# Altium footprint library zynq.PcbLib: 126 footprints (part 7 of 8)
Each footprint in its own frame and in the unit in brackets; x right, y up, seen from the top. Pads: shape width x height; smd on the part's side, far side on the other; paste and mask are expansions set on the pad; w line width, h text height; cw(c..) or ccw(c..) is an arc to the next point about the centre after c.
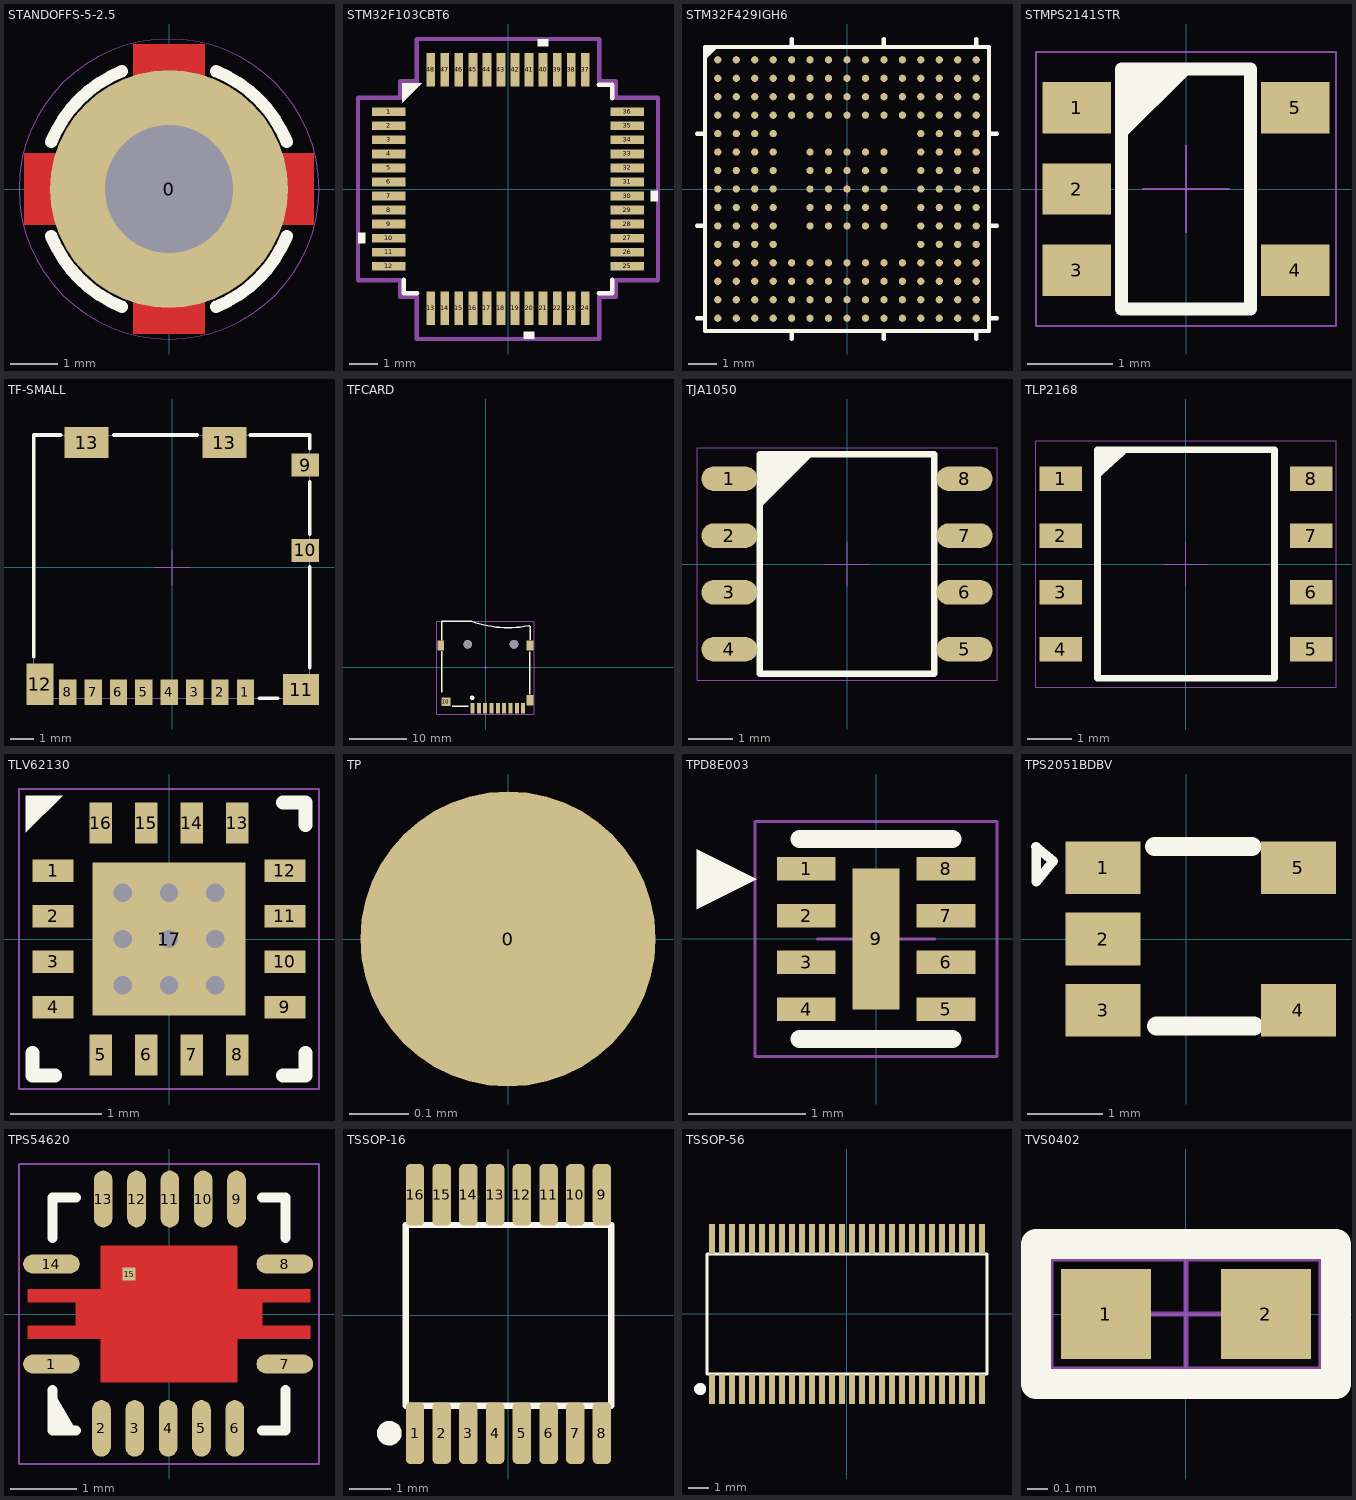
[diagram p6: the footprints below, top view; thin cyan lines are the x and y axes]

## STANDOFFS-5-2.5 [mm] "外径5 台阶外径2.5"
pads (1):
  round 5 / inner round 5 / far side round 0 hole 2.7: 0(0,0)
Top Layer:
  region: -1.422,-0.762 -1.422,0.762 -3.048,0.762 -3.048,-0.762
  rectangle: -0.762,1.422 0.762,3.048
  region: 1.422,0.762 1.422,-0.762 3.048,-0.762 3.048,0.762
  region: 0.762,-1.422 -0.762,-1.422 -0.762,-3.048 0.762,-3.048
Top Overlay:
  lines w0.254: -2.476,-0.99 ccw(c0,0) -0.99,-2.476 ; -2.476,0.99 cw(c0,0) -0.99,2.476 ; 0.99,-2.476 ccw(c0,0) 2.476,-0.99 ; 0.99,2.476 cw(c0,0) 2.476,0.99
Top Paste:
  region: -0.653,2.337 -0.443,1.6 0.493,1.6 0.704,2.337
  region: -2.114,1.191 -1.445,0.818 -0.783,1.48 -1.155,2.15
  region: -2.337,-0.653 -1.6,-0.443 -1.6,0.493 -2.337,0.704
  region: -1.191,-2.114 -0.818,-1.445 -1.48,-0.783 -2.15,-1.155
  region: 0.653,-2.337 0.443,-1.6 -0.493,-1.6 -0.704,-2.337
  region: 2.114,-1.191 1.445,-0.818 0.783,-1.48 1.155,-2.15
  region: 2.337,0.653 1.6,0.443 1.6,-0.493 2.337,-0.704
  region: 2.337,0.653 1.6,0.443 1.6,-0.493 2.337,-0.704
  region: 1.191,2.114 0.818,1.445 1.48,0.783 2.15,1.155
Top Solder:
  region: -1.422,-0.762 -1.422,0.762 -3.048,0.762 -3.048,-0.762
  rectangle: -0.762,1.422 0.762,3.048
  region: 1.422,0.762 1.422,-0.762 3.048,-0.762 3.048,0.762
  region: 0.762,-1.422 -0.762,-1.422 -0.762,-3.048 0.762,-3.048
Mechanical 15:
  circle w0.025: c0,0 r3.155
  lines w0.025: -0.381,0 0.381,0 ; 0,-0.381 0,0.381
3D body "cp-m2-3.2-5.SLDPRT": height 3.2, standoff -1.5, extent -2.497,-2.5 2.497,2.5

## STM32F103CBT6 [mm]
pads (48):
  rect 1.194x0.305 smd paste+0 mask+0: 1(-4.25,2.75) 2(-4.25,2.25) 3(-4.25,1.75) 4(-4.25,1.25) 5(-4.25,0.75) 6(-4.25,0.25) 7(-4.25,-0.25) 8(-4.25,-0.75) 9(-4.25,-1.25) 10(-4.25,-1.75) 11(-4.25,-2.25) 12(-4.25,-2.75) 25(4.25,-2.75) 26(4.25,-2.25) 27(4.25,-1.75) 28(4.25,-1.25) 29(4.25,-0.75) 30(4.25,-0.25) 31(4.25,0.25) 32(4.25,0.75) 33(4.25,1.25) 34(4.25,1.75) 35(4.25,2.25) 36(4.25,2.75)
  rect 0.305x1.194 smd paste+0 mask+0: 13(-2.75,-4.25) 14(-2.25,-4.25) 15(-1.75,-4.25) 16(-1.25,-4.25) 17(-0.75,-4.25) 18(-0.25,-4.25) 19(0.25,-4.25) 20(0.75,-4.25) 21(1.25,-4.25) 22(1.75,-4.25) 23(2.25,-4.25) 24(2.75,-4.25) 37(2.75,4.25) 38(2.25,4.25) 39(1.75,4.25) 40(1.25,4.25) 41(0.75,4.25) 42(0.25,4.25) 43(-0.25,4.25) 44(-0.75,4.25) 45(-1.25,4.25) 46(-1.75,4.25) 47(-2.25,4.25) 48(-2.75,4.25)
Top Overlay:
  region: -5.101,-1.559 -5.355,-1.559 -5.355,-1.94 -5.101,-1.94
  region: 0.941,-5.101 0.56,-5.101 0.56,-5.355 0.941,-5.355
  region: 5.101,-0.059 5.355,-0.059 5.355,-0.44 5.101,-0.44
  region: 1.441,5.101 1.06,5.101 1.06,5.355 1.441,5.355
  region: -3.08,3.778 -3.783,3.778 -3.783,3.075
  lines w0.152: -3.721,-3.235 -3.721,-3.721 -3.235,-3.721 ; 3.235,-3.721 3.721,-3.721 3.721,-3.235 ; 3.235,3.721 3.721,3.721 3.721,3.235
Mechanical 15:
  lines w0.152: -5.355,-3.258 -3.848,-3.258 -3.848,-3.848 -3.258,-3.848 -3.258,-5.355 3.258,-5.355 3.258,-3.848 3.848,-3.848 3.848,-3.258 5.355,-3.258 5.355,3.258 3.848,3.258 3.848,3.848 3.258,3.848 3.258,5.355 -3.258,5.355 -3.258,3.848 -3.848,3.848 -3.848,3.258 -5.355,3.258 -5.355,-3.258

## STM32F429IGH6 [mil] "BGA176, Pitch 0.65mm, 10mmx10mm"
pads (201):
  round 10 smd paste+0 mask+0: A1(-179.13,179.13) A2(-153.54,179.13) A3(-127.95,179.13) A4(-102.36,179.13) A5(-76.77,179.13) A6(-51.18,179.13) A7(-25.59,179.13) A8(0,179.13) A9(25.59,179.13) A10(51.18,179.13) A11(76.77,179.13) A12(102.36,179.13) A13(127.95,179.13) A14(153.54,179.13) A15(179.13,179.13) B1(-179.13,153.54) B2(-153.54,153.54) B3(-127.95,153.54) B4(-102.36,153.54) B5(-76.77,153.54) B6(-51.18,153.54) B7(-25.59,153.54) B8(0,153.54) B9(25.59,153.54) B10(51.18,153.54) B11(76.77,153.54) B12(102.36,153.54) B13(127.95,153.54) B14(153.54,153.54) B15(179.13,153.54) C1(-179.13,127.95) C2(-153.54,127.95) C3(-127.95,127.95) C4(-102.36,127.95) C5(-76.77,127.95) C6(-51.18,127.95) C7(-25.59,127.95) C8(0,127.95) C9(25.59,127.95) C10(51.18,127.95) C11(76.77,127.95) C12(102.36,127.95) C13(127.95,127.95) C14(153.54,127.95) C15(179.13,127.95) D1(-179.13,102.36) D2(-153.54,102.36) D3(-127.95,102.36) D4(-102.36,102.36) D5(-76.77,102.36) D6(-51.18,102.36) D7(-25.59,102.36) D8(0,102.36) D9(25.59,102.36) D10(51.18,102.36) D11(76.77,102.36) D12(102.36,102.36) D13(127.95,102.36) D14(153.54,102.36) D15(179.13,102.36) E1(-179.13,76.77) E2(-153.54,76.77) E3(-127.95,76.77) E4(-102.36,76.77) E12(102.36,76.77) E13(127.95,76.77) E14(153.54,76.77) E15(179.13,76.77) F1(-179.13,51.18) F2(-153.54,51.18) F3(-127.95,51.18) F4(-102.36,51.18) F6(-51.18,51.18) F7(-25.59,51.18) F8(0,51.18) F9(25.59,51.18) F10(51.18,51.18) F12(102.36,51.18) F13(127.95,51.18) F14(153.54,51.18) F15(179.13,51.18) G1(-179.13,25.59) G2(-153.54,25.59) G3(-127.95,25.59) G4(-102.36,25.59) G6(-51.18,25.59) G7(-25.59,25.59) G8(0,25.59) G9(25.59,25.59) G10(51.18,25.59) G12(102.36,25.59) G13(127.95,25.59) G14(153.54,25.59) G15(179.13,25.59) H1(-179.13,0) H2(-153.54,0) H3(-127.95,0) H4(-102.36,0) H6(-51.18,0) H7(-25.59,0) H8(0,0) H9(25.59,0) H10(51.18,0) H12(102.36,0) H13(127.95,0) H14(153.54,0) H15(179.13,0) J1(-179.13,-25.59) J2(-153.54,-25.59) J3(-127.95,-25.59) J4(-102.36,-25.59) J6(-51.18,-25.59) J7(-25.59,-25.59) J8(0,-25.59) J9(25.59,-25.59) J10(51.18,-25.59) J12(102.36,-25.59) J13(127.95,-25.59) J14(153.54,-25.59) J15(179.13,-25.59) K1(-179.13,-51.18) K2(-153.54,-51.18) K3(-127.95,-51.18) K4(-102.36,-51.18) K6(-51.18,-51.18) K7(-25.59,-51.18) K8(0,-51.18) K9(25.59,-51.18) K10(51.18,-51.18) K12(102.36,-51.18) K13(127.95,-51.18) K14(153.54,-51.18) K15(179.13,-51.18) L1(-179.13,-76.77) L2(-153.54,-76.77) L3(-127.95,-76.77) L4(-102.36,-76.77) L12(102.36,-76.77) L13(127.95,-76.77) L14(153.54,-76.77) L15(179.13,-76.77) M1(-179.13,-102.36) M2(-153.54,-102.36) M3(-127.95,-102.36) M4(-102.36,-102.36) M5(-76.77,-102.36) M6(-51.18,-102.36) M7(-25.59,-102.36) M8(0,-102.36) M9(25.59,-102.36) M10(51.18,-102.36) M11(76.77,-102.36) M12(102.36,-102.36) M13(127.95,-102.36) M14(153.54,-102.36) M15(179.13,-102.36) N1(-179.13,-127.95) N2(-153.54,-127.95) N3(-127.95,-127.95) N4(-102.36,-127.95) N5(-76.77,-127.95) N6(-51.18,-127.95) N7(-25.59,-127.95) N8(0,-127.95) N9(25.59,-127.95) N10(51.18,-127.95) N11(76.77,-127.95) N12(102.36,-127.95) N13(127.95,-127.95) N14(153.54,-127.95) N15(179.13,-127.95) P1(-179.13,-153.54) P2(-153.54,-153.54) P3(-127.95,-153.54) P4(-102.36,-153.54) P5(-76.77,-153.54) P6(-51.18,-153.54) P7(-25.59,-153.54) P8(0,-153.54) P9(25.59,-153.54) P10(51.18,-153.54) P11(76.77,-153.54) P12(102.36,-153.54) P13(127.95,-153.54) P14(153.54,-153.54) P15(179.13,-153.54) R1(-179.13,-179.13) R2(-153.54,-179.13) R3(-127.95,-179.13) R4(-102.36,-179.13) R5(-76.77,-179.13) R6(-51.18,-179.13) R7(-25.59,-179.13) R8(0,-179.13) R9(25.59,-179.13) R10(51.18,-179.13) R11(76.77,-179.13) R12(102.36,-179.13) R13(127.95,-179.13) R14(153.54,-179.13) R15(179.13,-179.13)
Top Overlay:
  region: -179.13,196.85 -196.85,179.13 -196.85,196.85
  lines w6: -208,-179.13 -198,-179.13 ; -208,-51.18 -198,-51.18 ; -208,76.77 -198,76.77 ; -76.77,-208 -76.77,-198 ; -76.77,198 -76.77,208 ; 51.18,-208 51.18,-198 ; 51.18,198 51.18,208 ; 179.13,-208 179.13,-198 ; 179.13,198 179.13,208 ; 198,-179.13 208,-179.13 ; 198,-51.18 208,-51.18 ; 198,76.77 208,76.77 ; -196.85,-196.85 196.85,-196.85 196.85,196.85 -196.85,196.85 -196.85,-196.85
Mechanical 13:
  lines w1: -198,-198 -198,198 198,198 198,-198 -198,-198
Mechanical 15:
  lines w1: -10,0 10,0 ; 0,-10 0,10 ; -196.85,-196.85 196.85,-196.85 196.85,196.85 -196.85,196.85 -196.85,-196.85

## STMPS2141STR [mm] "SOT23, 5-Leads, Body 2.90x2.80mm, Pitch 0.95mm, IPC High Density"
height 0.9
pads (5):
  rect 0.8x0.6 smd: 1(-1.275,0.95) 2(-1.275,0) 3(-1.275,-0.95) 4(1.275,-0.95) 5(1.275,0.95)
Top Overlay:
  region: -0.754,0.555 0.077,1.387 0.077,1.39 -0.741,1.39 -0.749,1.397
  lines w0.152: -0.75,-1.4 0.75,-1.4 0.75,1.4 -0.75,1.4 -0.75,-1.4
Mechanical 15:
  lines w0.025: -0.5,0 0.5,0 ; 0,-0.5 0,0.5 ; -1.75,-1.6 -1.75,1.6 1.75,1.6 1.75,-1.6 -1.75,-1.6

## TF-SMALL [mm]
pads (14):
  rect 0.75x1.1 smd: 1(3.163,-5.412) 2(2.063,-5.412) 3(0.962,-5.412) 4(-0.137,-5.412) 5(-1.237,-5.412) 6(-2.337,-5.412) 7(-3.437,-5.412) 8(-4.537,-5.412)
  rect 1.2x1 smd: 9(5.748,4.438) 10(5.748,0.738)
  rect 1.55x1.35 smd: 11(5.573,-5.287)
  rect 1.17x1.8 smd: 12(-5.747,-5.062)
  rect 1.9x1.35 smd: 13(-3.722,5.413) 13(2.248,5.413)
Top Overlay:
  lines w0.152: -6.008,-3.862 -6.008,5.738 -4.832,5.738 ; -2.532,5.738 1.068,5.738 ; 3.368,5.738 5.942,5.738 5.942,5.138 ; 3.768,-5.662 4.568,-5.662 ; 5.942,-4.337 5.942,0.038 ; 5.942,1.438 5.942,3.712
Mechanical 15:
  lines w0.025: -0.762,0 0.762,0 ; 0,-0.762 0,0.762 ; -6.008,-5.662 5.942,-5.662 5.942,5.738 -6.008,5.738 -6.008,-5.662

## TFCARD [mil]
pads (15):
  rect 27.56x70.87 smd: 1(-92,-280.5) 2(-48.69,-280.5) 3(-5.39,-280.5) 4(37.92,-280.5) 5(81.23,-280.5) 6(124.54,-280.5) 7(167.84,-280.5) 8(211.15,-280.5) 9(254.46,-280.5)
  rect 62.99x59.06 smd: 10(-273.1,-235.22)
  rect 47.24x70.87 smd: 11(301.7,-225.38) 12(301.7,148.63) 13(-308.54,148.63)
  round 59.06 hole 59.06 unplated: ""(-124,156.51) ""(192,156.51)
Top Overlay:
  circle w29.53: c-93.86,-210 r1
  lines w10: -301.54,-172.5 -301.54,107.5 ; -301.54,185.5 -301.54,311.5 ; -301.54,313.5 -98.06,313.5 ccw(c151.13,1000.55) 292.46,283.5 300.46,283.5 ; -231.54,-266.5 -119.54,-266.5 ; 300.46,-184.5 300.46,105.5 ; 302.46,187.5 302.46,281.5
Mechanical 15:
  lines w1: -10,0 10,0 ; 0,-10 0,10 ; -335,-320 -335,315 330,315 330,-320 -335,-320
Multi-Layer:
  circle w1: c-123.5,156.51 r29.64
  circle w1: c191.46,156.51 r29.64

## TJA1050 [mm]
height 1.75
pads (8):
  oval 1.25x0.55 smd: 1(-2.625,1.905) 2(-2.625,0.635) 3(-2.625,-0.635) 4(-2.625,-1.905) 5(2.625,-1.905) 6(2.625,-0.635) 7(2.625,0.635) 8(2.625,1.905)
Top Overlay:
  region: -1.936,2.371 -1.916,2.391 -0.8,2.391 -1.95,1.241
  lines w0.152: -1.95,-2.45 -1.95,2.45 1.95,2.45 1.95,-2.45 -1.95,-2.45
Mechanical 15:
  lines w0.025: -0.5,0 0.5,0 ; 0,-0.5 0,0.5 ; -3.35,-2.6 -3.35,2.6 3.35,2.6 3.35,-2.6 -3.35,-2.6
3D body "tja1050.STEP": height 1.66, standoff 0, extent -3.078,-2.483 3.077,2.417

## TLP2168 [mm]
pads (8):
  rect 0.95x0.55 smd: 1(-2.8,1.905) 2(-2.8,0.635) 3(-2.8,-0.635) 4(-2.8,-1.905) 5(2.8,-1.905) 6(2.8,-0.635) 7(2.8,0.635) 8(2.8,1.905)
Top Overlay:
  region: -1.27,2.54 -1.975,1.905 -1.975,2.55
  lines w0.152: -1.975,-2.55 -1.975,2.55 1.975,2.55 1.975,-2.55 -1.975,-2.55
Mechanical 15:
  lines w0.025: -0.5,0 0.5,0 ; 0,-0.5 0,0.5 ; -3.35,-2.75 -3.35,2.75 3.35,2.75 3.35,-2.75 -3.35,-2.75

## TLV62130 [mm] "PQFN, 16-Leads, Body 3.00x3.00mm, Pitch 0.50mm, Thermal Pad 1.68x1.68mm, IPC High Density"
height 1
pads (17):
  rect 0.45x0.25 smd: 1(-1.275,0.75) 2(-1.275,0.25) 3(-1.275,-0.25) 4(-1.275,-0.75) 9(1.275,-0.75) 10(1.275,-0.25) 11(1.275,0.25) 12(1.275,0.75)
  rect 0.25x0.45 smd: 5(-0.75,-1.275) 6(-0.25,-1.275) 7(0.25,-1.275) 8(0.75,-1.275) 13(0.75,1.275) 14(0.25,1.275) 15(-0.25,1.275) 16(-0.75,1.275)
  rect 1.68x1.68 smd: 17(0,0)
via 0.508,-0.508 diameter 0.45 hole 0.2
via 0,-0.508 diameter 0.45 hole 0.2
via -0.508,-0.508 diameter 0.45 hole 0.2
via 0.508,0 diameter 0.45 hole 0.2
via 0,0 diameter 0.45 hole 0.2
via 0.508,0.508 diameter 0.45 hole 0.2
via -0.508,0.508 diameter 0.45 hole 0.2
via 0,0.508 diameter 0.45 hole 0.2
via -0.508,0 diameter 0.45 hole 0.2
Top Overlay:
  region: -1.17,1.577 -1.575,1.172 -1.575,1.577
  lines w0.152: -1.5,-1.251 -1.5,-1.5 -1.251,-1.5 ; 1.251,-1.5 1.5,-1.5 1.5,-1.251 ; 1.251,1.5 1.5,1.5 1.5,1.251
Mechanical 15:
  lines w0.025: -0.5,0 0.5,0 ; 0,-0.5 0,0.5 ; -1.65,-1.65 -1.65,1.65 1.65,1.65 1.65,-1.65 -1.65,-1.65

## TP [mm]
pads (1):
  round 0.5 smd: 0(0,0)

## TPD8E003 [mm] "SON, 8-Leads, Body 1.70x1.35mm, Pitch 0.40mm, Thermal Pad 1.20x0.40mm, IPC High Density"
height 0.75
pads (9):
  rect 0.5x0.2 smd: 1(-0.595,0.6) 2(-0.595,0.2) 3(-0.595,-0.2) 4(-0.595,-0.6) 5(0.595,-0.6) 6(0.595,-0.2) 7(0.595,0.2) 8(0.595,0.6)
  rect 0.4x1.2 smd: 9(0,0)
Top Overlay:
  region: -1.524,0.762 -1.524,0.254 -1.016,0.508
  lines w0.152: -0.65,-0.85 0.65,-0.85 ; -0.65,0.85 0.65,0.85
Mechanical 15:
  lines w0.025: -0.5,0 0.5,0 ; 0,-0.5 0,0.5 ; -1.03,-1 1.03,-1 1.03,1 -1.03,1 -1.03,-1

## TPS2051BDBV [mm] "TPS2051BDBV"
pads (5):
  rect 1x0.7 smd: 1(-1.104,0.95) 2(-1.104,0) 3(-1.104,-0.95) 4(1.496,-0.95) 5(1.496,0.95)
Top Overlay:
  lines w0.127: -1.996,1.228 -1.768,1.037 -1.993,0.759 -1.993,1.229
  lines w0.254: -0.418,1.229 0.877,1.229 ; -0.393,-1.158 0.903,-1.158

## TPS54620 [mm] "VQFN_3_5"
pads (15):
  oval 0.85x0.28 smd paste-0.04: 1(-1.763,-0.75) 7(1.737,-0.75) 8(1.737,0.75) 14(-1.763,0.75)
  oval 0.28x0.85 smd paste-0.04: 2(-1.013,-1.716) 3(-0.513,-1.716) 4(-0.013,-1.716) 5(0.487,-1.716) 6(0.987,-1.716) 9(1.013,1.725) 10(0.513,1.725) 11(0.013,1.725) 12(-0.487,1.725) 13(-0.987,1.725)
  rect 0.2x0.2 smd paste+0: 15(-0.6,0.6)
Top Layer:
  region: -1.35,-0.175 -2.124,-0.175 -2.124,-0.375 -1.35,-0.375
  region: -1.35,0.375 -2.124,0.375 -2.124,0.175 -1.35,0.175
  region: -1.013,0.375 -1.4,0.375 -1.4,-0.375 -1.013,-0.375
  rectangle: 1.35,0.175 2.125,0.375
  rectangle: 1.35,-0.375 2.125,-0.175
  rectangle: 1.013,-0.375 1.4,0.375
  rectangle: -1.025,-1.025 1.025,1.025
Top Overlay:
  region: -1.753,-1.139 -1.394,-1.75 -1.75,-1.75
  lines w0.152: -1.75,-1.143 -1.75,-1.75 -1.397,-1.75 ; -1.75,1.143 -1.75,1.75 -1.397,1.75 ; 1.397,-1.75 1.75,-1.75 1.75,-1.143 ; 1.397,1.75 1.75,1.75 1.75,1.143
Top Paste:
  rectangle: -1.025,0.15 -0.15,1.027
  region: 0.15,1.025 0.15,0.15 1.027,0.15 1.027,1.025
  region: 1.025,-0.15 0.15,-0.15 0.15,-1.027 1.025,-1.027
  region: -0.15,-1.025 -0.15,-0.15 -1.027,-0.15 -1.027,-1.025
Mechanical 15:
  lines w0.025: -0.254,0 0.254,0 ; 0,-0.254 0,0.254 ; -2.25,-2.25 2.25,-2.25 2.25,2.25 -2.25,2.25 -2.25,-2.25
3D body "tps54620.STEP": height 0.82, standoff 0, extent -1.77,-1.77 1.77,1.77

## TSSOP-16 [mm]
pads (16):
  rrect50% 0.45x1.5 smd: 1(-2.275,-2.866) 2(-1.625,-2.866) 3(-0.975,-2.866) 4(-0.325,-2.866) 5(0.325,-2.866) 6(0.975,-2.866) 7(1.625,-2.866) 8(2.275,-2.866) 9(2.275,2.934) 10(1.625,2.934) 11(0.975,2.934) 12(0.325,2.934) 13(-0.325,2.934) 14(-0.975,2.934) 15(-1.625,2.934) 16(-2.275,2.934)
Top Overlay:
  circle w0.3: c-2.899,-2.866 r0.15
  lines w0.152: -2.5,-2.2 -2.5,2.2 2.5,2.2 2.5,-2.2 -2.5,-2.2

## TSSOP-56 [mm]
pads (56):
  rect 0.3x1.5 smd: 1(-6.75,-3.75) 2(-6.25,-3.75) 3(-5.75,-3.75) 4(-5.25,-3.75) 5(-4.75,-3.75) 6(-4.25,-3.75) 7(-3.75,-3.75) 8(-3.25,-3.75) 9(-2.75,-3.75) 10(-2.25,-3.75) 11(-1.75,-3.75) 12(-1.25,-3.75) 13(-0.75,-3.75) 14(-0.25,-3.75) 15(0.25,-3.75) 16(0.75,-3.75) 17(1.25,-3.75) 18(1.75,-3.75) 19(2.25,-3.75) 20(2.75,-3.75) 21(3.25,-3.75) 22(3.75,-3.75) 23(4.25,-3.75) 24(4.75,-3.75) 25(5.25,-3.75) 26(5.75,-3.75) 27(6.25,-3.75) 28(6.75,-3.75) 29(6.75,3.75) 30(6.25,3.75) 31(5.75,3.75) 32(5.25,3.75) 33(4.75,3.75) 34(4.25,3.75) 35(3.75,3.75) 36(3.25,3.75) 37(2.75,3.75) 38(2.25,3.75) 39(1.75,3.75) 40(1.25,3.75) 41(0.75,3.75) 42(0.25,3.75) 43(-0.25,3.75) 44(-0.75,3.75) 45(-1.25,3.75) 46(-1.75,3.75) 47(-2.25,3.75) 48(-2.75,3.75) 49(-3.25,3.75) 50(-3.75,3.75) 51(-4.25,3.75) 52(-4.75,3.75) 53(-5.25,3.75) 54(-5.75,3.75) 55(-6.25,3.75) 56(-6.75,3.75)
Top Overlay:
  circle w0.3: c-7.342,-3.75 r0.15
  lines w0.152: -7,-3 -7,3 7,3 7,-3 -7,-3

## TVS0402 [mm] "TVS0402"
pads (2):
  rect 0.45x0.45 smd: 1(-0.4,0) 2(0.4,0)
Top Overlay:
  lines w0.152: -0.75,-0.35 -0.75,0.35 0.75,0.35 0.75,-0.35 -0.75,-0.35
Mechanical 15:
  lines w0.025: -0.275,0 0.275,0 ; 0,-0.275 0,0.275 ; -0.674,-0.274 -0.674,0.274 0.674,0.274 0.674,-0.274 -0.674,-0.274